# Altium footprint library YXG.PcbLib: 51 footprints (part 2 of 4)
Each footprint in its own frame and in the unit in brackets; x right, y up, seen from the top. Pads: shape width x height; smd on the part's side, far side on the other; paste and mask are expansions set on the pad; w line width, h text height; cw(c..) or ccw(c..) is an arc to the next point about the centre after c.
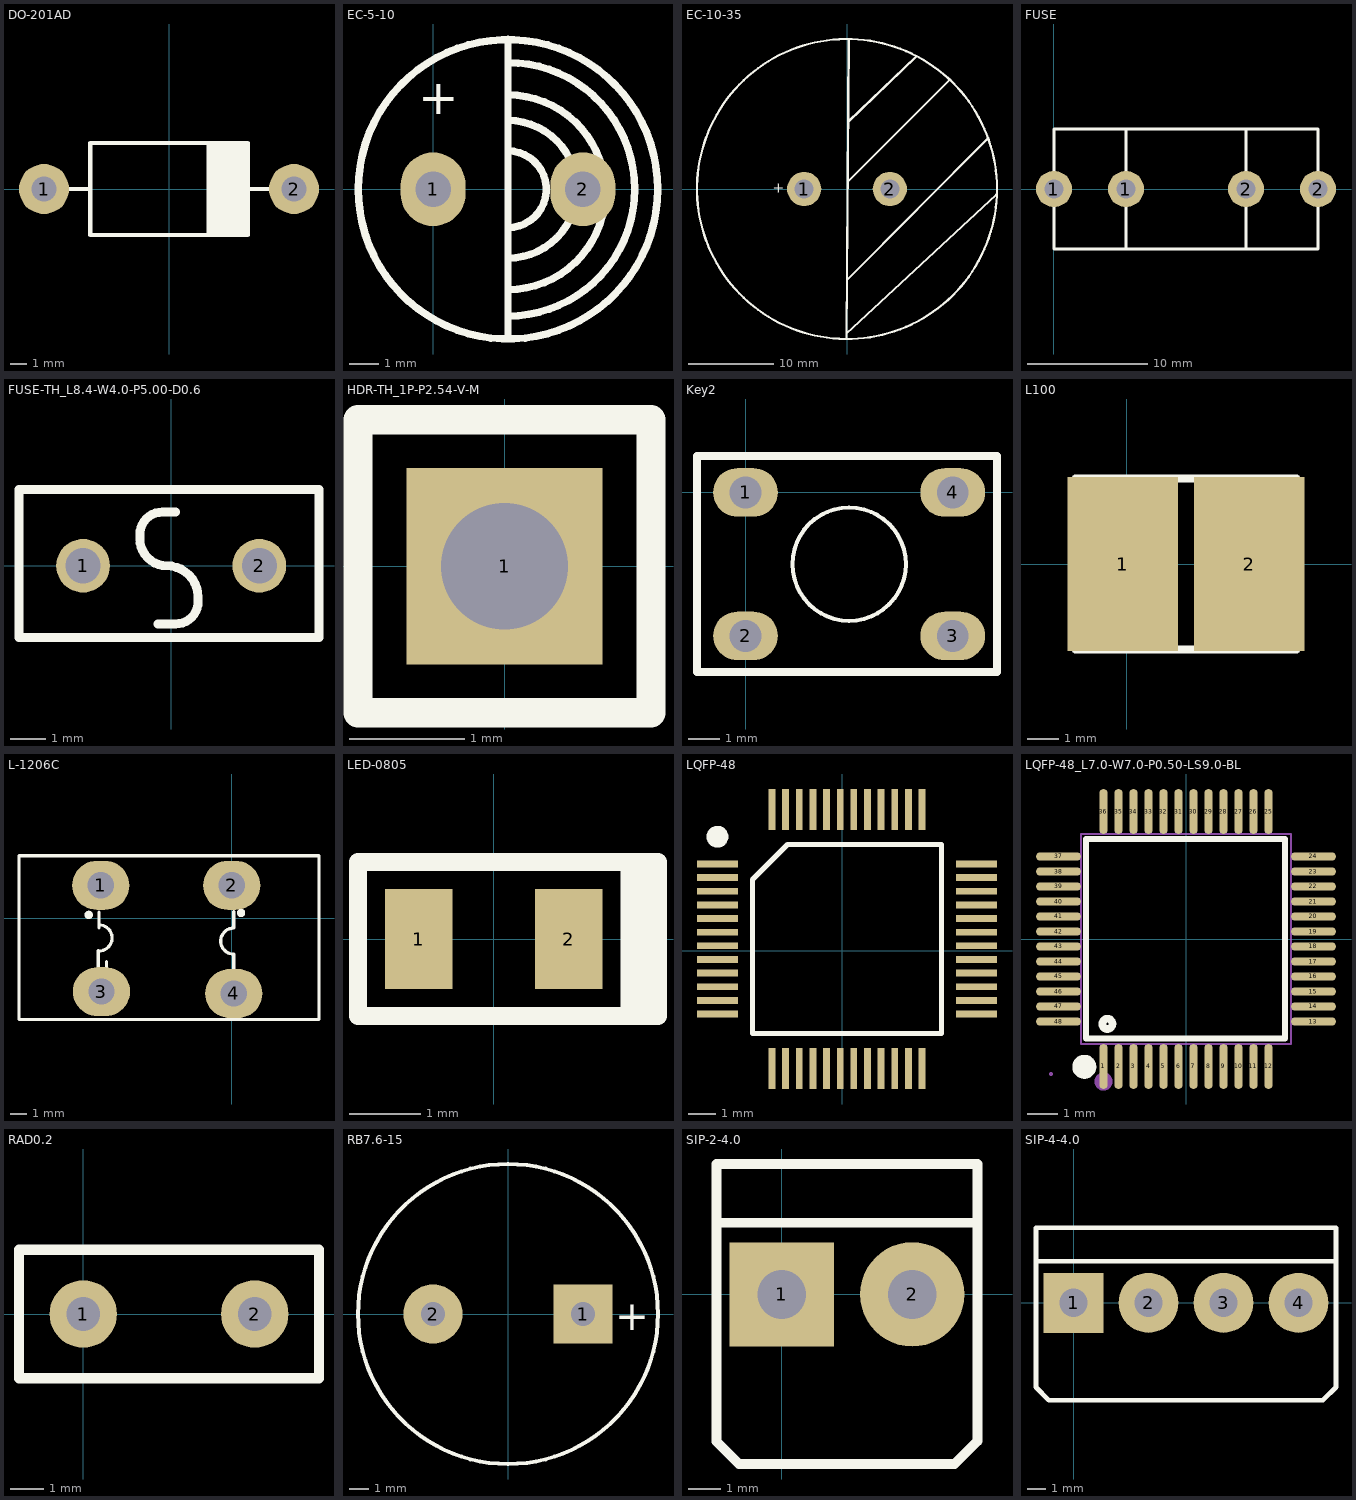
[diagram p1: the footprints below, top view; thin cyan lines are the x and y axes]

## DO-201AD [mil]
height 80
pads (2):
  round 120 hole 59.06: 1(-300,0) 2(300,0)
Top Overlay:
  lines w10: -240.16,0 -188.98,0 ; 94.49,-110.24 94.49,110.24 ; 102.36,-110.24 102.36,110.24 ; 110.24,-110.24 110.24,110.24 ; 118.11,-110.24 118.11,110.24 ; 125.98,-110.24 125.98,110.24 ; 133.86,-110.24 133.86,110.24 ; 141.73,-110.24 141.73,110.24 ; 149.61,-110.24 149.61,110.24 ; 157.48,-110.24 157.48,110.24 ; 165.35,-110.24 165.35,110.24 ; 173.23,-110.24 173.23,110.24 ; 181.1,-110.24 181.1,110.24 ; 188.98,0 240.16,0 ; -188.98,-110.24 188.98,-110.24 188.98,110.24 -188.98,110.24 -188.98,-110.24

## EC-5-10 [mm]
pads (2):
  oval 2.2x2.5 hole 1.2: 1(0,0) 2(5.08,0)
Top Overlay:
  circle w0.254: c2.54,0 r5.08
  lines w0.254: 2.54,-5 2.54,5.1 ; 2.54,-4.3 ccw(c2.54,0) 2.54,4.3 ; 2.54,-3.4 ccw(c2.54,-0.1) 2.54,3.2 ; 2.54,-2.335 ccw(c2.54,0) 2.54,2.335 ; 2.54,-1.3 ccw(c2.54,0) 2.54,1.3
  text "+" at -0.508,2.54 h1.2

## EC-10-35 [mm]
pads (2):
  round 4 hole 2.2: 1(-5,0) 2(5,0)
Top Overlay:
  circle w0.254: c0,0 r17.5
  lines w0.254: -0.072,-17.45 0.203,17.475 ; -0.07,-16.89 17.402,-0.675 ; 0.031,-10.571 16.485,5.944 ; 0.072,0.737 0.072,0.834 11.989,12.751 12.04,12.751 ; 0.173,7.878 8.026,15.392
  text "+" at -8.636,-0.432 h1.2

## FUSE [mm]
pads (4):
  round 3 hole 1.6: 1(0,0) 1(6,0) 2(16,0) 2(22,0)
Top Overlay:
  lines w0.254: 6,-5 6,5 ; 16,-5 16,5 ; 0,-5 22,-5 22,5 0,5 0,-5

## FUSE-TH_L8.4-W4.0-P5.00-D0.6 [mm]
pads (2):
  round 1.524 hole 1 paste+0 mask+0.05: 1(-2.5,0) 2(2.5,0)
Top Overlay:
  lines w0.254: -0.381,-1.651 0.127,-1.651 ccw(c0.127,-1.016) 0.762,-1.016 0.762,-0.889 ccw(c-0.127,-0.889) -0.127,0 cw(c-0.127,0.762) -0.889,0.762 -0.889,0.889 cw(c-0.254,0.889) -0.254,1.524 0.127,1.524 ; -4.318,-2.032 4.191,-2.032 4.191,2.159 -4.318,2.159 -4.318,-2.032
Mechanical 15:
  region: -4.14,-2 -4.14,-1.976 -4.175,-1.941 -4.224,-1.941 -4.259,-1.976 -4.26,-2 -4.259,-2.024 -4.224,-2.059 -4.175,-2.059 -4.14,-2.024 -4.14,-2
  region: 2.84,0 2.84,0.06 2.794,0.17 2.71,0.254 2.6,0.3 2.48,0.3 2.37,0.254 2.285,0.17 2.24,0.06 2.24,0 2.24,-0.06 2.285,-0.17 2.37,-0.254 2.48,-0.3 2.6,-0.3 2.71,-0.254 2.794,-0.17 2.84,-0.06 2.84,0
  region: -2.24,0 -2.24,0.06 -2.286,0.17 -2.37,0.254 -2.48,0.3 -2.6,0.3 -2.71,0.254 -2.795,0.17 -2.84,0.06 -2.84,0 -2.84,-0.06 -2.795,-0.17 -2.71,-0.254 -2.6,-0.3 -2.48,-0.3 -2.37,-0.254 -2.286,-0.17 -2.24,-0.06 -2.24,0

## HDR-TH_1P-P2.54-V-M [mm]
pads (1):
  rect 1.7x1.7 hole 1.1: 1(0,0)
Top Overlay:
  lines w0.254: -1.27,-1.27 -1.27,1.27 1.27,1.27 1.27,-1.27 -1.27,-1.27
Mechanical 15:
  region: -0.325,-0.325 -0.325,0.325 0.325,0.325 0.325,-0.325
  region: 1.33,1.25 1.329,1.274 1.294,1.309 1.246,1.309 1.211,1.274 1.21,1.25 1.211,1.225 1.246,1.191 1.294,1.191 1.329,1.225 1.33,1.25
  lines w0.051: -1.27,-1.25 1.27,-1.25 1.27,1.25 -1.27,1.25 -1.27,-1.25

## Key2 [mm]
pads (4):
  oval 2.032x1.524 hole 1: 1(0,0) 2(0,-4.5) 3(6.5,-4.5) 4(6.5,0)
Top Overlay:
  circle w0.127: c3.25,-2.25 r1.778
  lines w0.254: 7.89,1.092 7.89,-5.63 -1.524,-5.63 -1.524,1.14 7.89,1.14

## L100 [mm]
pads (2):
  rect 3.5x5.5 smd paste+0: 1(-0.127,0)
  rect 3.5x5.5 smd: 2(3.873,0)
Top Overlay:
  lines w0.254: -1.627,-2.7 -1.627,2.7 5.373,2.7 5.373,-2.7 -1.627,-2.7

## L-1206C [mm]
pads (4):
  oval 3.5x3 hole 1.6: 1(-8,2) 2(0,2) 3(-7.96,-4.498) 4(0.127,-4.609)
Top Overlay:
  circle w0.254: c-8.739,0.193 r0.127
  circle w0.254: c0.571,0.312 r0.127
  lines w0.2: -13,-6.2 -13,3.8 ; -8.159,-4 -8.159,-2 ; -8.114,-2.017 ccw(c-8.114,-1.217) -8.114,-0.417 ; -8.114,-0.609 -8.114,0.351 ; -7.655,-3.067 -7.655,-2.667 ; 0.127,-4.209 0.127,-2.209 cw(c0.127,-1.409) 0.127,-0.609 0.127,0.391 ; 0.142,-5.885 0.142,-5.485 ; 5.334,-6.2 5.334,3.8
  lines w0.203: -13,-6.2 5.334,-6.2 ; -13,3.8 5.334,3.8

## LED-0805 [mm]
height 0.8
pads (2):
  rect 0.95x1.4 smd: 1(-1.05,0) 2(1.05,0)
Top Overlay:
  lines w0.254: 1.9,-1.08 1.9,1.08 ; 2.1,-1.08 2.1,1.08 ; -1.9,-1.08 -1.9,1.08 2.3,1.08 2.3,-1.08 -1.9,-1.08

## LQFP-48 [mm]
pads (48):
  rect 1.5x0.25 smd: 1(-4.568,3.175) 2(-4.568,2.675) 3(-4.568,2.175) 4(-4.568,1.675) 5(-4.568,1.175) 6(-4.568,0.675) 7(-4.568,0.175) 8(-4.568,-0.325) 9(-4.568,-0.825) 10(-4.568,-1.325) 11(-4.568,-1.825) 12(-4.568,-2.325) 25(4.932,-2.325) 26(4.932,-1.825) 27(4.932,-1.325) 28(4.932,-0.825) 29(4.932,-0.325) 30(4.932,0.175) 31(4.932,0.675) 32(4.932,1.175) 33(4.932,1.675) 34(4.932,2.175) 35(4.932,2.675) 36(4.932,3.175)
  rect 0.25x1.5 smd: 13(-2.568,-4.325) 14(-2.068,-4.325) 15(-1.568,-4.325) 16(-1.068,-4.325) 17(-0.568,-4.325) 18(-0.068,-4.325) 19(0.432,-4.325) 20(0.932,-4.325) 21(1.432,-4.325) 22(1.932,-4.325) 23(2.432,-4.325) 24(2.932,-4.325) 37(2.932,5.175) 38(2.432,5.175) 39(1.932,5.175) 40(1.432,5.175) 41(0.932,5.175) 42(0.432,5.175) 43(-0.068,5.175) 44(-0.568,5.175) 45(-1.068,5.175) 46(-1.568,5.175) 47(-2.068,5.175) 48(-2.568,5.175)
Top Overlay:
  circle w0.4: c-4.568,4.175 r0.2
  lines w0.2: -3.283,-3.04 -3.283,2.605 -1.998,3.89 3.647,3.89 3.647,-3.04 -3.283,-3.04

## LQFP-48_L7.0-W7.0-P0.50-LS9.0-BL [mm]
pads (48):
  oval 0.27x1.5 smd paste+0 mask+0.05: 1(-2.75,-4.25) 2(-2.25,-4.25) 3(-1.75,-4.25) 4(-1.25,-4.25) 5(-0.75,-4.25) 6(-0.25,-4.25) 7(0.25,-4.25) 8(0.75,-4.25) 9(1.25,-4.25) 10(1.75,-4.25) 11(2.25,-4.25) 12(2.75,-4.25) 25(2.75,4.25) 26(2.25,4.25) 27(1.75,4.25) 28(1.25,4.25) 29(0.75,4.25) 30(0.25,4.25) 31(-0.25,4.25) 32(-0.75,4.25) 33(-1.25,4.25) 34(-1.75,4.25) 35(-2.25,4.25) 36(-2.75,4.25)
  oval 1.5x0.27 smd paste+0 mask+0.05: 13(4.25,-2.75) 14(4.25,-2.25) 15(4.25,-1.75) 16(4.25,-1.25) 17(4.25,-0.75) 18(4.25,-0.25) 19(4.25,0.25) 20(4.25,0.75) 21(4.25,1.25) 22(4.25,1.75) 23(4.25,2.25) 24(4.25,2.75) 37(-4.25,2.75) 38(-4.25,2.25) 39(-4.25,1.75) 40(-4.25,1.25) 41(-4.25,0.75) 42(-4.25,0.25) 43(-4.25,-0.25) 44(-4.25,-0.75) 45(-4.25,-1.25) 46(-4.25,-1.75) 47(-4.25,-2.25) 48(-4.25,-2.75)
Top Overlay:
  circle w0.254: c-2.62,-2.83 r0.17
  lines w0.2: -2.896,3.34 3.302,3.34 3.302,-3.315 -3.327,-3.315 -3.327,3.34 -2.565,3.34
  lines w0.4: -3.39,-4.06 ccw(c-3.389,-4.26) -3.389,-4.46 ccw(c-3.389,-4.26) -3.387,-4.06
Mechanical 6:
  circle w0.3: c-2.75,-4.75 r0.15
Mechanical 15:
  drawing of 101 lines, arcs and shapes, not listed

## RAD0.2 [mm]
pads (2):
  round 2 hole 1: 1(0,0) 2(5.08,0)
Top Overlay:
  lines w0.305: -1.905,-1.905 6.985,-1.905 6.985,1.905 -1.905,1.905 -1.905,-1.905

## RB7.6-15 [mm]
pads (2):
  rect 3x3 hole 1.2: 1(3.81,0)
  round 3 hole 1.2: 2(-3.81,0)
Top Overlay:
  circle w0.2: c0,0 r7.62
  text "+" at 5.436,-0.813 h1.5

## SIP-2-4.0 [mm]
pads (2):
  rect 3.2x3.2 hole 1.5: 1(0,0)
  round 3.2 hole 1.5: 2(4,0)
Top Overlay:
  lines w0.3: -2,2.2 6,2.2 ; -2,-4.51 -2,-4.5 -2,4 6,4 6,-4.5 5.3,-5.2 4.3,-5.2 -0.3,-5.2 -1.31,-5.2 -2,-4.51

## SIP-4-4.0 [mm]
pads (4):
  rect 3.2x3.2 hole 1.5: 1(0,0)
  round 3.2 hole 1.5: 2(4,0) 3(8,0) 4(12,0)
Top Overlay:
  lines w0.254: -2,2.21 14,2.21 ; -1.31,-5.2 13.3,-5.2 14,-4.5 14,4 -2,4 -2,-4.51 -1.31,-5.2 ; -1.31,-5.2 -1.31,-5.2 ; -2,2.2 -2,2.2